# EAGLE library part WURTH-749-921-012-1 (library Traficon)
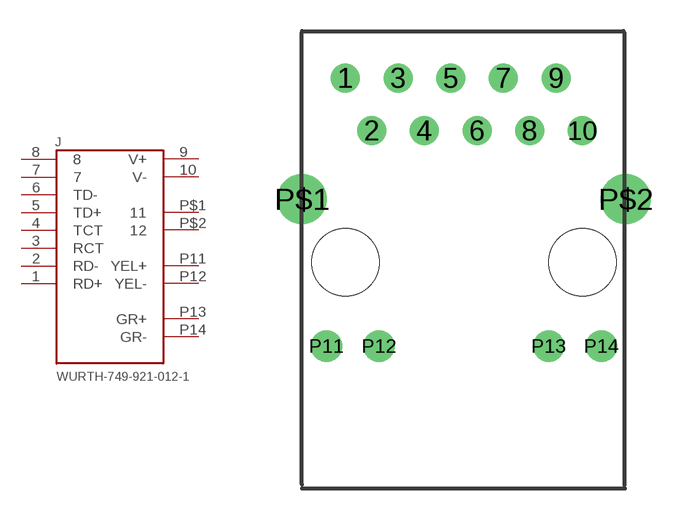
[diagram p125: symbol with the pads of MIDCOM-MIC66211; footprint MIDCOM-MIC66211]

Designator prefix J

## WURTH-749-921-012-1  [MIDCOM-MIC66211]
1  RD+  pas
2  RD-  pas
3  RCT  pas
4  TCT  pas
5  TD+  pas
6  TD-  pas
7  7  pas
8  8  pas
9  V+  pas
10  V-  pas
P11  YEL+
P12  YEL-
P13  GR+
P14  GR-
P$1  11  pas
P$2  12  pas

## Footprint MIDCOM-MIC66211 (pad centres in mm)
drill 0.889 round: 1 -5.715,8.89; 2 -4.445,6.35; 3 -3.175,8.89; 4 -1.905,6.35; 5 -0.635,8.89; 6 0.635,6.35; 7 1.905,8.89; 8 3.175,6.35; 9 4.445,8.89; 10 5.715,6.35
drill 1 round: P11 -6.63,-4.06; P12 -4.09,-4.06; P13 4.09,-4.06; P14 6.63,-4.06
drill 1.6 round: P$1 -7.81,3.05; P$2 7.81,3.05
hole 3.251 at -5.715,0
hole 3.251 at 5.715,0